# EAGLE library part ADS1115 (library ADS1115 Library)
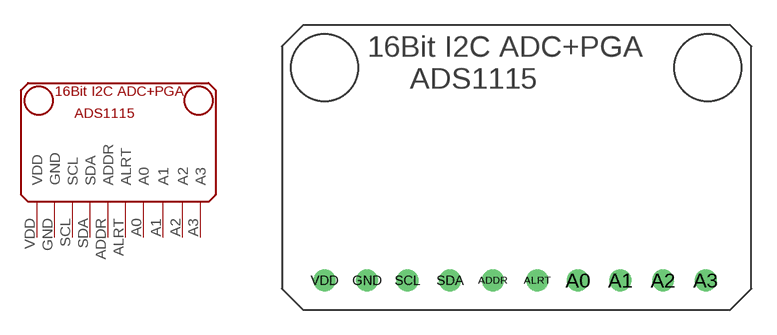
[diagram p0: symbol with the pads of ADS1115; footprint ADS1115]

Designator prefix -

## ADS1115  [ADS1115]
A0  A0
A1  A1
A2  A2
A3  A3
ADDR  ADDR
ALRT  ALRT
GND  GND
SCL  SCL
SDA  SDA
VDD  VDD

## Footprint ADS1115 (pad centres in mm)
drill 0.8: A0 17.653,-15.24; A1 20.193,-15.24; A2 22.733,-15.24; A3 25.273,-15.24; ADDR 12.573,-15.24; ALRT 15.24,-15.24; GND 5.08,-15.24; SCL 7.493,-15.24; SDA 10.033,-15.24; VDD 2.54,-15.24